# Altium schematic symbol library bms_R00.SCHLIB: 50 symbols
Pins are listed as number, name and electrical type; pins without a type are passive.

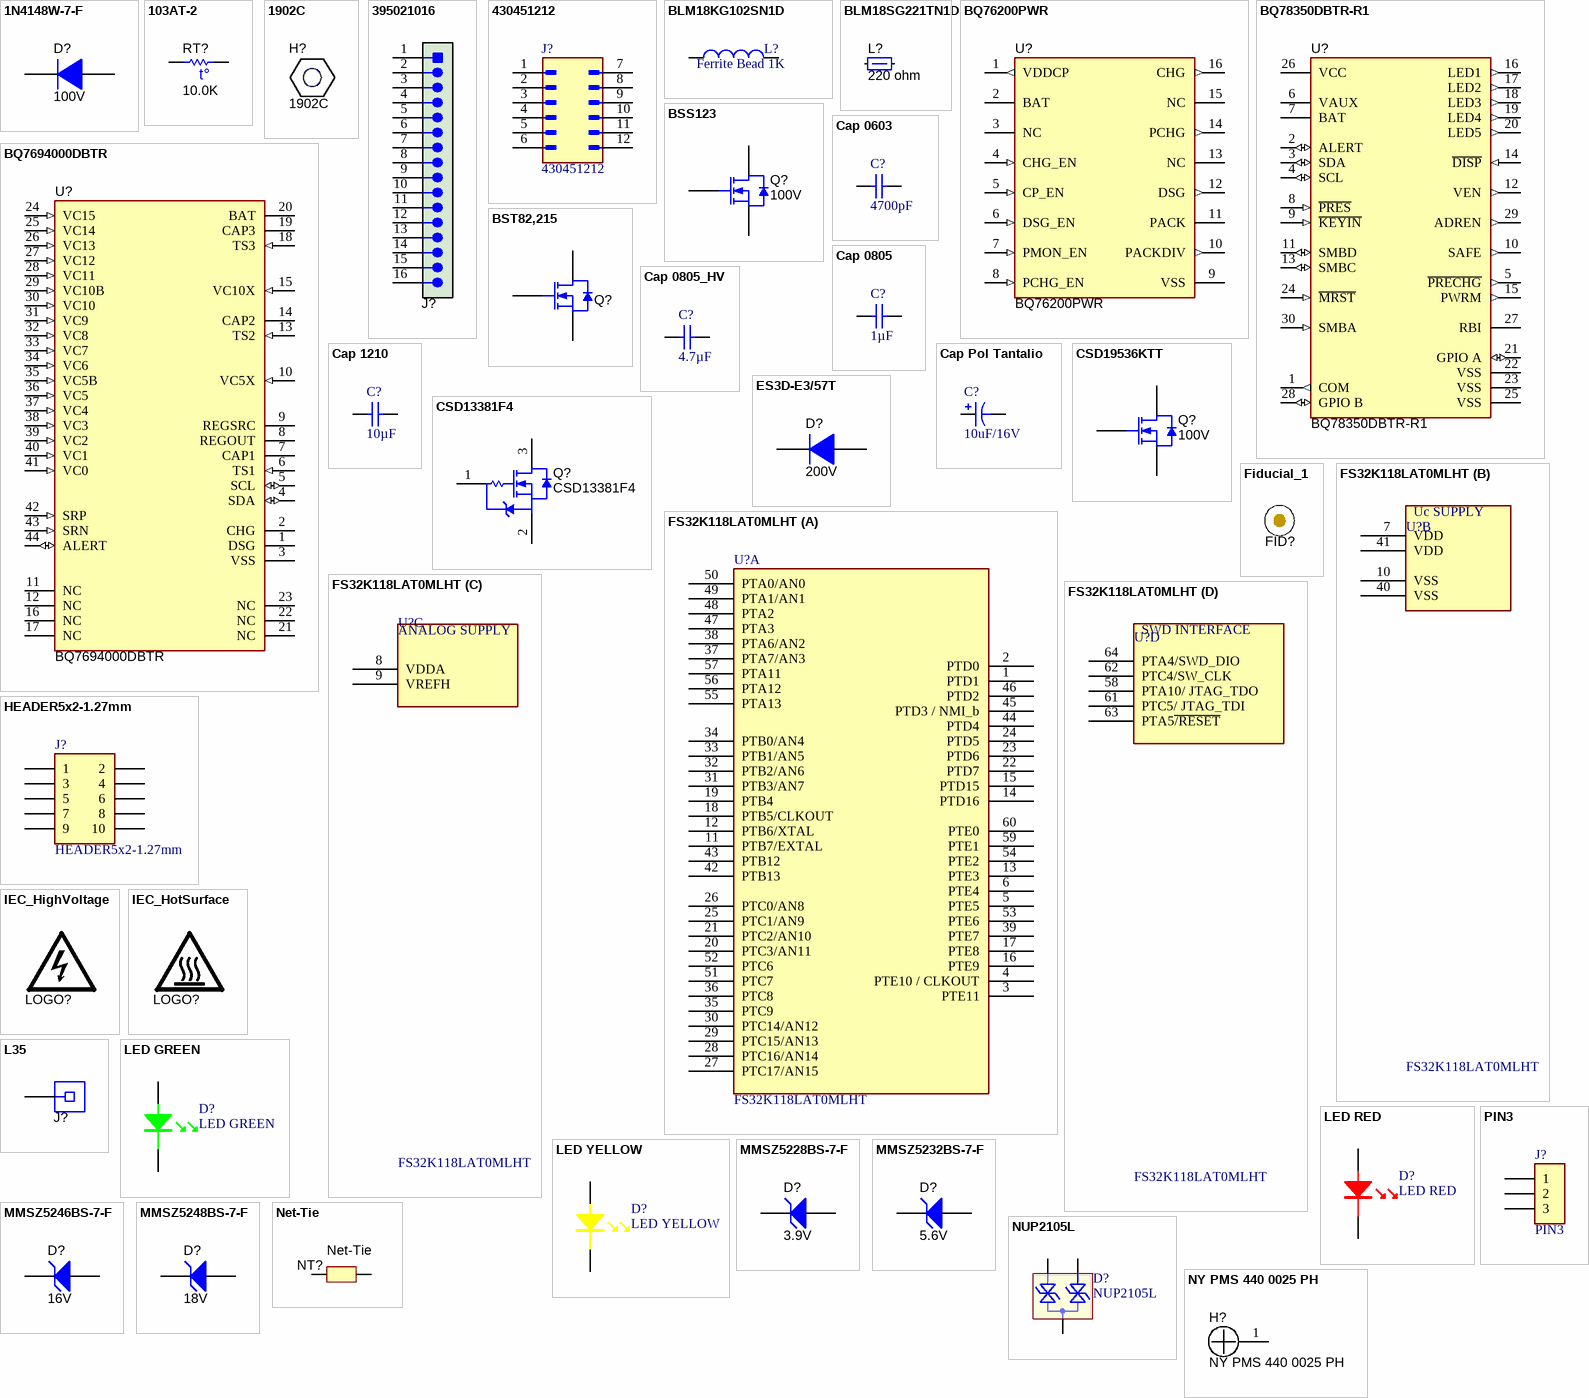
[diagram p0: symbols 1N4148W-7-F to PIN3]

## 1N4148W-7-F
designator D?  value 100V  (hidden comment: 1N4148W-7-F)
Diode, Ultrafast, 100V, 0.15A, SOD-123; Manufacturer: Diodes Inc.; U/M: EA; Vf_V: 1.25; Io_A: 0.15; Vr_V: 100; Value2: 1.25V; TJmax_C: 150; ComponentLink1URL: http://www.diodes.com/datasheets/ds30086.pdf; SymbolVersion: 2008-12-08; PackageReference: SOD-123; PartNumber: 1N4148W-7-F; ComponentLink1Description: Datasheet link; CompType: Diode; MountType: SMT; RoHS: Y; Value1: 0.15A; Type: Ultrafast; Published: 2008-06-26; Publisher: Texas Instruments; LatestRevisionDate: 2013-10-23; Supplier 1: Digi-Key; Supplier Part Number 1: 1N4148W-FDICT-ND; Supplier 2: Mouser; Supplier Part Number 2: 621-1N4148W-F; Supplier 3: Farnell; Supplier Part Number 3: 1776392
footprint SOD-123
pins: 1 K, 2 A

## 103AT-2
designator RT?  value 10.0K  (hidden comment: 103AT-2)
Thermistor NTC, 10.0k ohm, 1%, Disc, 5x8.4 mm; Manufacturer: SEMITEC Corporation; Tolerance_%: 1; Power_W: 0.01; TaMin_C: -50; TaMax_C: 110; U/M: EA; ComponentLink1URL: http://www.semitec.co.jp/english2/products/pdf/AT_Thermistor.pdf; PackageReference: Disc, 5x8.4 mm; SymbolVersion: 2008-11-25; PartNumber: 103AT-2; ComponentLink1Description: Datasheet link; CompType: ThermistorNTC; Series: AT; MountType: TH; RoHS: Y; Published: 2009-09-22; Publisher: Texas Instruments; LatestRevisionDate: 2013-08-16; Supplier 1: Mouser; Supplier Part Number 1: 954-103AT-2
footprint Thermistor_103AT-2
pins: 1, 2
text: t°

## 1902C
designator H?
Standoff, Hex, 0.5"L #4-40 Nylon; Manufacturer: Keystone; CompType: Hardware; MountType: N/A; RoHS: Y; PartNumber: 1902C; PackageReference: Standoff; ComponentLink1Description: Datasheet Link; ComponentLink1URL: http://www.keyelco.com/pdfs/M55-prod31.pdf; Alternate Manufacturer: -; Alternate PartNumber: -; LatestRevisionDate: 2012-06-27; LatestRevisionNote: Initial Version; Publisher: Texas Instruments; Supplier 1: Digi-Key; Supplier Part Number 1: 1902CK-ND
footprint Keystone_1902C

## 395021016
designator J?, comment 395021011  (value not drawn)
Terminal block, 3.5mm, 16x1, R/A, TH; Manufacturer: Molex; SymbolCreator: a0799628; U/M: EA; SymbolVersion: 2013-12-22; PartNumber: 395021011; PackageReference: 39.90x7.03x9.33 mm; CompType: Terminal Block; RoHS: Y; MountType: TH; ComponentLink1Description: Datasheet Link; ComponentLink1URL: http://www.molex.com/pdm_docs/sd/395021002_sd.pdf; Publisher: Texas Instruments; LatestRevisionDate: 2015-02-18; Supplier 1: Digi-Key; Supplier Part Number 1: WM7779-ND; Supplier 2: Mouser; Supplier Part Number 2: 538-39502-1011
footprint HEADER_395021016
pins: 1, 2, 3, 4, 5, 6, 7, 8, 9, 10, 11, 12, 13, 14, 15, 16

## 430451212
designator J?
Micro-Fit 3.0 43045 / CONN HEADER VERT 12POS 3MM; MP: 430451012; Price: None; Availability: Unavailable; Value: *; Package: None
footprint MOLEX_430451212
pins: 1, 2, 3, 4, 5, 6, 7, 8, 9, 10, 11, 12

## BLM18KG102SN1D
designator L?, comment Ferrite Bead 1K
BLM18KG102SN1D 1K
footprint 0603 FB
pins: 1, 2

## BLM18SG221TN1D
designator L?  value 220 ohm  (hidden comment: BLM18SG221TN1D)
Ferrite Bead, 220 ohm @ 100 MHz, 2.5 A, 0603; Manufacturer: MuRata; Imax_A: 2.5; DCR_ohm: 0.04; Value1: 0.04 ohm; Value2: 2.5A; ZTyp@100MHz_Ohm: 220; CompType: Ferrite Bead; SymbolVersion: 2009-06-02; PartNumber: BLM18SG221TN1D; MountType: SMT; PackageReference: 0603; Published: 2014-04-30; Publisher: Texas Instruments; LatestRevisionDate: 2015-05-26; ComponentLink1Description: Datasheet link; ComponentLink1URL: http://search.murata.co.jp/Ceramy/image/img/PDF/ENG/L0110S0100BLM18S.pdf; RoHS: Y; Supplier 1: Digi-Key; Supplier Part Number 1: 490-5225-1-ND; Supplier 2: Mouser; Supplier Part Number 2: 81-BLM18SG221TN1D; Supplier 3: Farnell; Supplier Part Number 3: 1515753
footprint 0603 FB
pins: 1, 2

## BQ76200PWR
designator U?
bq76200: Low-Power, High-Side N-channel FET Driver with Pack Voltage Monitor, PW0016A; Manufacturer: Texas Instruments; SymbolCreator: x0208325; SizeArea_mm2: 32; SizeAreaWB_mm2: 58.8; SizeX_mm: 6.4; SizeY_mm: 5; SizeZ_mm: 1.2; CompType: IC; U/M: EA; SymbolVersion: 2013-12-26; PartNumber: BQ76200PWR; Alternate PartNumber: BQ76200PW; PackageReference: PW0016A; PackageDescription: TSSOP-16; MountType: SMT; ComponentLink1Description: Datasheet Link; ComponentLink1URL: http://www.ti.com/lit/ds/symlink/bq76200.pdf; RoHS: Y; Publisher: Texas Instruments; LatestRevisionDate: 2016-06-17; Alternate Manufacturer: Texas Instruments
footprint PW0016A_N
footprint PW0016A_M
footprint PW0016A_L
pins: 1 VDDCP (out), 2 BAT (power), 3 NC, 4 CHG_EN (in), 5 CP_EN (in), 6 DSG_EN (in), 7 PMON_EN (in), 8 PCHG_EN (in), 9 VSS (power), 10 PACKDIV (out), 11 PACK (power), 12 DSG (out), 13 NC, 14 PCHG (out), 15 NC, 16 CHG (out)
1 alternate drawing of the same symbol

## BQ78350DBTR-R1
designator U?
CEDV Li-Ion Gas Gauge and Battery Management Controller Companion to the bq769x0 Battery Monitoring AFE, DBT0030A; Alternate PartNumber: BQ78350DBT-R1; Manufacturer: Texas Instruments; SymbolCreator: x0208325; CompType: IC; U/M: EA; SymbolVersion: 2013-11-18; PartNumber: BQ78350DBTR-R1; PackageReference: DBT0030A; MountType: SMT; ComponentLink1Description: Datasheet Link; ComponentLink1URL: http://www.ti.com/lit/ds/symlink/bq78350-r1.pdf; RoHS: Y; Publisher: Texas Instruments; LatestRevisionDate: 2016-04-08; Alternate Manufacturer: Texas Instruments
footprint DBT0030A_N
footprint DBT0030A_M
footprint DBT0030A_L
pins: 1 COM (out), 2 ALERT (io), 3 SDA (io), 4 SCL (io), 5 ~{PRECHG} (out), 6 VAUX (power), 7 BAT (power), 8 ~{PRES} (in), 9 ~{KEYIN} (in), 10 SAFE (out), 11 SMBD (io), 12 VEN (out), 13 SMBC (io), 14 ~{DISP} (in), 15 PWRM (out), 16 LED1 (out), 17 LED2 (out), 18 LED3 (out), 19 LED4 (out), 20 LED5 (out), 21 GPIO A (io), 22 VSS (power), 23 VSS (power), 24 ~{MRST} (in), 25 VSS (power), 26 VCC (power), 27 RBI (power), 28 GPIO B (io), 29 ADREN (out), 30 SMBA (in)
1 alternate drawing of the same symbol

## BQ7694000DBTR
designator U?
Battery Monitor for Lithium-Ion and Phosphate Battery Packs, DBT0044A; Manufacturer: Texas Instruments; SymbolCreator: a0412235; CompType: IC; U/M: EA; SymbolVersion: 2012-12-21; PartNumber: BQ7694000DBTR; Alternate PartNumber: BQ7694000DBT; PackageReference: DBT0044A; MountType: SMT; ComponentLink1Description: Datasheet Link; ComponentLink1URL: http://www.ti.com/lit/gpn/bq76920; RoHS: Y; Publisher: Texas Instruments; LatestRevisionDate: 2016-02-12; Alternate Manufacturer: Texas Instruments
footprint DBT0044A_N
footprint DBT0044A_M
footprint DBT0044A_L
pins: 1 DSG (power), 2 CHG (power), 3 VSS (power), 4 SDA (io), 5 SCL (io), 6 TS1 (in), 7 CAP1, 8 REGOUT (power), 9 REGSRC (power), 10 VC5X (in), 11 NC, 12 NC, 13 TS2 (in), 14 CAP2, 15 VC10X (in), 16 NC, 17 NC, 18 TS3 (in), 19 CAP3, 20 BAT (power), 21 NC, 22 NC, 23 NC, 24 VC15 (in), 25 VC14 (in), 26 VC13 (in), 27 VC12 (in), 28 VC11 (in), 29 VC10B (in), 30 VC10 (in), 31 VC9 (in), 32 VC8 (in), 33 VC7 (in), 34 VC6 (in), 35 VC5B (in), 36 VC5 (in), 37 VC4 (in), 38 VC3 (in), 39 VC2 (in), 40 VC1 (in), 41 VC0 (in), 42 SRP (in), 43 SRN (in), 44 ALERT (io)

## BSS123
designator Q?  value 100V  (hidden comment: BSS123)
MOSFET, N-CH, 100V, 0.17A, SOT-23; Manufacturer: Fairchild Semiconductor; Alternate Manufacturer: None; U/M: EA; ChType: N; VdsMax_V: 100; Value1: 10 ohm; Rdson45_Ohm: 10; Value2: 1.8 nC; QgTyp_nC: 1.8; Vgs_V: 20; IdsMax_A: 0.17; SymbolVersion: 2008-07-28; CompType: MOSFET; PartNumber: BSS123; PackageReference: SOT-23; RoHS: Y; MountType: SMT; Published: 2008-06-19; Publisher: Texas Instruments; LatestRevisionDate: 2013-10-21; LatestRevisionNote: Added parts.; ComponentLink1Description: Datasheet link; ComponentLink1URL: http://www.fairchildsemi.com/ds/BS/BSS123.pdf; Supplier 1: Digi-Key; Supplier Part Number 1: BSS123NCT-ND; Supplier 2: Mouser; Supplier Part Number 2: 512-BSS123; Supplier 3: Farnell; Supplier Part Number 3: 9845321
footprint SOT-23
footprint SOT-23M
footprint SOT-23L
pins: 1 G, 2 S, 3 D

## BST82,215
designator Q?  (value not drawn)
MOSFET, N-CH, 100 V, 0.19 A, SOT-23; Manufacturer: NXP Semiconductor; Alternate Manufacturer: None; U/M: EA; ChType: N; Value: 100V; VdsMax_V: 100; Value1: 10 ohm; Rdson45_ohm: 10; Value2: ? nC; Vgs_V: 20; IdsMax_A: 0.19; AEC Category: Q101; SymbolVersion: 2008-07-28; CompType: MOSFET; PartNumber: BST82,215; PackageReference: SOT-23; RoHS: Y; MountType: SMT; Published: 2008-06-19; Publisher: Texas Instruments; LatestRevisionDate: 2016-03-03; LatestRevisionNote: Added parts.; ComponentLink1Description: Datasheet link; ComponentLink1URL: http://www.nxp.com/documents/data_sheet/BST82.pdf; Supplier 1: Digi-Key; Supplier Part Number 1: 568-6229-1-ND; Supplier 2: Mouser; Supplier Part Number 2: 771-BST82215; Supplier 3: Newark; Supplier Part Number 3: 75R4704; AEC Qualified: ?
footprint SOT-23
footprint SOT-23M
footprint SOT-23L
pins: 1 G, 2 S, 3 D

## Cap 0603
designator C?, comment 4700pF
Capacitor
footprint C0603
pins: 1, 2

## Cap 0805
designator C?, comment 1µF
Capacitor
footprint 0805 (Chip Resistor; Body 2.0 x 1.3 mm (LxW typ))
pins: 1, 2

## Cap 0805_HV
designator C?, comment 4.7µF
Capacitor
footprint 0805_HV_2
pins: 1, 2

## Cap 1210
designator C?, comment 10µF
Capacitor
footprint 1210_270
pins: 1, 2

## Cap Pol Tantalio
designator C?, comment 10uF/16V
Polarized Capacitor Tantalium
footprint 1206 Cap Tant
pins: 1, 2
1 alternate drawing of the same symbol

## CSD13381F4
designator Q?
MOSFET, N/P-CH, 12 V, 2.1 A, 1.0x0.35x0.6mm; Manufacturer: Texas Instruments; Alternate Manufacturer: None; SymbolCreator: a0411947; U/M: EA; ChType: N; Value: 12V; VdsMax_V: 12; Value1: 0.14 ohm; Rdson45_ohm: 0.14; Value2: 1.06 nC; QgTyp_nC: 1.06; Vgs_V: 8; IdsMax_A: 2.1; SymbolVersion: 2013-11-21; PartNumber: CSD13381F4; PackageReference: 1.0x0.35x0.6mm; CompType: MOSFET; RoHS: Y; MountType: SMT; Published: 2008-06-19; Publisher: Texas Instruments; LatestRevisionDate: 2015-02-19; LatestRevisionNote: Added parts.; ComponentLink1Description: Datasheet link; ComponentLink1URL: http://www.ti.com/lit/ds/symlink/csd13381f4.pdf; Supplier 1: Digi-Key; Supplier Part Number 1: CSD13381F4-ND; Supplier 2: Mouser; Supplier Part Number 2: 595-CSD13381F4; Supplier 3: Newark; Supplier Part Number 3: 11X3112
footprint YJC0003A
pins: 1 G, 2 S, 3 D
1 alternate drawing of the same symbol

## CSD19536KTT
designator Q?  value 100V  (hidden comment: CSD19536KTT)
MOSFET, N-CH, 100 V, 200 A, KTT0002A; Manufacturer: Texas Instruments; Alternate Manufacturer: None; U/M: EA; ChType: N; VdsMax_V: 100; Value1: ? ohm; Value2: 118 nC; QgTyp_nC: 118; Vgs_V: 20; IdsMax_A: 200; AEC Category: Q101; SymbolVersion: 2008-07-28; PartNumber: CSD19536KTT; PackageReference: KTT0002A; CompType: MOSFET; RoHS: Y; MountType: SMT; Published: 2008-06-19; Publisher: Texas Instruments; LatestRevisionDate: 2016-02-08; LatestRevisionNote: Added parts.; ComponentLink1Description: Datasheet link; ComponentLink1URL: http://www.ti.com/lit/ds/symlink/csd19536ktt.pdf; Supplier 1: Digi-Key; Supplier Part Number 1: 296-41136-1-ND; Supplier 2: Mouser; Supplier Part Number 2: 595-CSD19536KTT; AEC Qualified: ?
footprint KTT0002A_N
footprint KTT0002A_M
footprint KTT0002A_L
pins: 1 G, 2 D, 3 S
1 alternate drawing of the same symbol

## ES3D-E3/57T
designator D?  value 200V  (hidden comment: ES3D-E3/57T)
Diode, Ultrafast, 200V, 3A, SMC; Manufacturer: Vishay-Semiconductor; U/M: EA; Vf_V: 0.9; Value2: 0.9V; Io_A: 3; Vr_V: 200; TJmax_C: 150; SymbolVersion: 2008-12-08; PartNumber: ES3D-E3/57T; PackageReference: SMC; CompType: Diode; Value1: 3A; MountType: SMT; Type: Ultrafast; RoHS: Y; Published: 2008-06-26; Publisher: Texas Instruments; LatestRevisionDate: 2014-01-31; ComponentLink1Description: Datasheet link; ComponentLink1URL: http://www.vishay.com/docs/88589/88589.pdf; Supplier 1: Digi-Key; Supplier Part Number 1: ES3D-E3/57TGICT-ND; Supplier 2: Mouser; Supplier Part Number 2: 625-ES3D-E3; Supplier 3: Farnell; Supplier Part Number 3: 1021753
signal-integrity model Diode
footprint SMC
pins: 1 K, 2 A

## Fiducial_1
designator FID?, comment Fiducial  (value not drawn)
Fiducial mark.  There is nothing to buy or mount.; SymbolCreator: codlsc; SymbolVersion: 2009-11-4; CompType: Fiducial; Publisher: Texas Instruments; LatestRevisionDate: 2014-08-01; LatestRevisionNote: Added Alternate PartNumber and Alternate Manufacturer parameters to appropriate components.; Manufacturer: N/A; MountType: N/A; PackageReference: Fiducial; PartNumber: N/A; ClassName: FiducialMark
footprint Fiducial10-30
footprint Fiducial10-20
footprint Fiducial15-30
footprint Fiducial20-40
footprint Fiducial6.4-20

## FS32K118LAT0MLHT
designator U?
ARM® Cortex®-M0+ series Microcontroller IC 32-Bit Single-Core 48MHz 256KB (256K x 8) FLASH 64-LQFP (10x10)
footprint LQFP64-NXP
part A pins: 1 PTD1, 2 PTD0, 3 PTE11, 4 PTE10 / CLKOUT, 5 PTE5, 6 PTE4, 11 PTB7/EXTAL, 12 PTB6/XTAL, 13 PTE3, 14 PTD16, 15 PTD15, 16 PTE9, 17 PTE8, 18 PTB5/CLKOUT, 19 PTB4, 20 PTC3/AN11, 21 PTC2/AN10, 22 PTD7, 23 PTD6, 24 PTD5, 25 PTC1/AN9, 26 PTC0/AN8, 27 PTC17/AN15, 28 PTC16/AN14, 29 PTC15/AN13, 30 PTC14/AN12, 31 PTB3/AN7, 32 PTB2/AN6, 33 PTB1/AN5, 34 PTB0/AN4, 35 PTC9, 36 PTC8, 37 PTA7/AN3, 38 PTA6/AN2, 39 PTE7, 42 PTB13, 43 PTB12, 44 PTD4, 45 PTD3 / NMI_b, 46 PTD2, 47 PTA3, 48 PTA2, 49 PTA1/AN1, 50 PTA0/AN0, 51 PTC7, 52 PTC6, 53 PTE6, 54 PTE2, 55 PTA13, 56 PTA12, 57 PTA11, 59 PTE1, 60 PTE0
part B pins: 7 VDD, 10 VSS, 40 VSS, 41 VDD
part C pins: 8 VDDA, 9 VREFH
part D pins: 58 PTA10/ JTAG_TDO, 61 PTC5/ JTAG_TDI, 62 PTC4/SW_CLK, 63 PTA5~{/RESET}, 64 PTA4/SWD_DIO
part B text: Uc SUPPLY
part C text: ANALOG SUPPLY
part D text: SWD INTERFACE

## HEADER5x2-1.27mm
designator J?
PAD10-2X05-HH
footprint PAD10-2X05-HH (Header 2x5 paso 0.05")
pins: 1, 2, 3, 4, 5, 6, 7, 8, 9, 10

## IEC_HighVoltage
designator LOGO?, comment DANGER HIGH VOLTAGE  (value not drawn)  (no BOM)
IEC 61010-1 High Voltage Warning; SymbolCreator: a0412235; SymbolVersion: 2011-08-22; Published: 2009-03-03; Publisher: Texas Instruments; LatestRevisionDate: 2016-03-21
footprint IEC_HighVoltage_Large
footprint IEC_HighVoltage_Medium
footprint IEC_HighVoltage_Small

## IEC_HotSurface
designator LOGO?, comment CAUTION HOT SURFACE  (value not drawn)  (no BOM)
IEC 61010-1 Hot Surface Warning; SymbolCreator: a0412235; SymbolVersion: 2011-08-22; Published: 2009-03-03; Publisher: Texas Instruments; LatestRevisionDate: 2016-03-21
footprint IEC_HotSurface_Large
footprint IEC_HotSurface_Medium
footprint IEC_HotSurface_Small

## L35
designator J?  (value not drawn)
Connector, L Type Copper Single Conductor, TH; Manufacturer: Thomas & Betts; SymbolCreator: a0799628; Gender: Female; Row_Count: 1; SymbolVersion: 2014-1-06; PartNumber: L35; PackageReference: Connector, L Type Copper Single Conductor, TH; CompType: Connector; RoHS: N; MountType: TH; ComponentLink1Description: Datasheet URL; ComponentLink1URL: http://www.tnb.com/ps/fulltilt/index.cgi?check=Y&part=L35; Orientation: Vertical; PinCount: 1; ContactFinish: Copper; Publisher: Texas Instruments; LatestRevisionDate: 2016-07-21
footprint TB_L35
pins: 1

## LED GREEN
designator D?
LED G
footprint LED0603-G (Diode; Body 1.6 x 0.8 mm (LxW typ))
footprint LED0805-G
pins: 1 K, 2 A

## LED RED
designator D?
LED R
footprint LED1206
footprint LED0805-R
footprint LED0603-R (Diode; Body 1.6 x 0.8 mm (LxW typ))
pins: 1 K, 2 A

## LED YELLOW
designator D?
LED Y
footprint LED0603-Y (Diode; Body 1.6 x 0.8 mm (LxW typ))
footprint LED0805-Y
pins: 1 K, 2 A

## MMSZ5228BS-7-F
designator D?  value 3.9V  (hidden comment: MMSZ5228BS-7-F)
Diode, Zener, 3.9 V, 200 mW, SOD-323; Manufacturer: Diodes Inc.; SymbolCreator: a0412235; U/M: EA; Power_W: 0.2; Vz_V: 3.9; Value1: 0.2W; RJA_CperW: 350; AEC Category: Q101; SymbolVersion: 2010-08-25; PartNumber: MMSZ5228BS-7-F; PackageReference: SOD-323; CompType: Zener; Vr_V: N/A; MountType: SMT; RoHS: Y; ComponentLink1Description: Datasheet link; ComponentLink1URL: http://www.diodes.com/datasheets/ds31038.pdf; Published: 2008-10-08; Publisher: Texas Instruments; LatestRevisionDate: 2016-04-07; LatestRevisionNote: Updated Supplier Data; Supplier 1: Digi-Key; Supplier Part Number 1: MMSZ5228BS-FDICT-ND; Supplier 2: Mouser; Supplier Part Number 2: 621-MMSZ5228BS-F; AEC Qualified: ?
signal-integrity model Diode
footprint sod-323
pins: 1 K, 2 A

## MMSZ5232BS-7-F
designator D?  value 5.6V  (hidden comment: MMSZ5232BS-7-F)
Diode, Zener, 5.6V, 200mW, SOD-323; Manufacturer: Diodes Inc.; U/M: EA; Power_W: 0.2; Vz_V: 5.6; Value1: 0.2W; RJA_CperW: 350; CompType: Zener; SymbolVersion: 2010-08-25; PartNumber: MMSZ5232BS-7-F; PackageReference: SOD-323; Vr_V: N/A; MountType: SMT; RoHS: Y; ComponentLink1Description: Datasheet link; ComponentLink1URL: http://www.diodes.com/datasheets/ds31038.pdf; Published: 2008-10-08; Publisher: Texas Instruments; LatestRevisionDate: 2013-02-11; LatestRevisionNote: Updated Supplier Data; Supplier 1: Digi-Key; Supplier Part Number 1: MMSZ5232BS-FDICT-ND; Supplier 2: Mouser; Supplier Part Number 2: 621-MMSZ5232BS-F
signal-integrity model Diode
footprint sod-323
pins: 1 K, 2 A

## MMSZ5246BS-7-F
designator D?  value 16V  (hidden comment: MMSZ5246BS-7-F)
Diode, Zener, 16 V, 200 mW, SOD-323; Manufacturer: Diodes Inc.; SymbolCreator: a0412235; U/M: EA; Power_W: 0.2; Vz_V: 16; Value1: 0.2W; RJA_CperW: 350; AEC Category: Q101; SymbolVersion: 2010-08-25; PartNumber: MMSZ5246BS-7-F; PackageReference: SOD-323; CompType: Zener; Vr_V: N/A; MountType: SMT; RoHS: Y; ComponentLink1Description: Datasheet link; ComponentLink1URL: http://www.diodes.com/datasheets/ds31038.pdf; Published: 2008-10-08; Publisher: Texas Instruments; LatestRevisionDate: 2016-02-26; LatestRevisionNote: Updated Supplier Data; Supplier 1: Digi-Key; Supplier Part Number 1: MMSZ5246BS-FDICT-ND; Supplier 2: Mouser; Supplier Part Number 2: 621-MMSZ5246BS-7-F; AEC Qualified: ?
signal-integrity model Diode
footprint sod-323
pins: 1 K, 2 A

## MMSZ5248BS-7-F
designator D?  value 18V  (hidden comment: MMSZ5248BS-7-F)
Diode, Zener, 18 V, 200 mW, SOD-323; Manufacturer: Diodes Inc.; SymbolCreator: a0412235; U/M: EA; Power_W: 0.2; Vz_V: 18; Value1: 0.2W; RJA_CperW: 350; AEC Category: Q101; SymbolVersion: 2010-08-25; PartNumber: MMSZ5248BS-7-F; PackageReference: SOD-323; CompType: Zener; Vr_V: N/A; MountType: SMT; RoHS: Y; ComponentLink1Description: Datasheet link; ComponentLink1URL: http://www.diodes.com/datasheets/ds31038.pdf; Published: 2008-10-08; Publisher: Texas Instruments; LatestRevisionDate: 2016-01-12; LatestRevisionNote: Updated Supplier Data; Supplier 1: Digi-Key; Supplier Part Number 1: MMSZ5248BS-FDICT-ND; Supplier 2: Mouser; Supplier Part Number 2: 621-MMSZ5248BS-F; Supplier 3: Farnell; Supplier Part Number 3: 1858632; AEC Qualified: ?
signal-integrity model Diode
footprint sod-323
pins: 1 K, 2 A

## Net-Tie
designator NT?  (net tie, no BOM)
Single point connection between nets.; SymbolCreator: codlsc; SymbolVersion: 2009-07-01; MountType: SMT; PackageReference: N/A; Publisher: Texas Instruments; LatestRevisionDate: 2015-10-18; LatestRevisionNote: Added Alternate PartNumber and Alternate Manufacturer parameters to appropriate components.
footprint Net-Tie_10mil (10mil net tie, no solder mask opening, no solder paste)
footprint NetTie_1206 (1206 pads tied by 10mil copper trace which can be cut.  Part can be placed on pads.)
footprint Net-Tie_0805_HV
footprint NetTie_1206_NoOverlay (1206 pads tied by 10mil copper trace which can be cut.  Part can be placed on pads.)
footprint Net-Tie_0805_HV_NoOverlay (0805_HV pads tied by 10mil copper trace which can be cut.  An 0805 part can be placed on pads.)
footprint Net-Tie_10milWide_30milLong
footprint Net-Tie_20milWide_60milLong
footprint NetTie_0603
footprint NetTie_0402
footprint Net-Tie_50milWide_30milLong
pins: 1, 2

## NUP2105L
designator D?
Dual Line CAN Bus Protector TVS DIODE 24VWM 44VC SOT23-3
footprint SOT-23 (SOT-23; 3 Leads; Body 3.0 x 2.5 mm, inc. leads (LxW max))
pins: 1, 2, 3

## NY PMS 440 0025 PH
designator H?
Machine Screw, Round, #4-40 x 1/4, Nylon, Philips panhead; Manufacturer: B&F Fastener Supply; CompType: Hardware; SymbolCreator: codlsc; U/M: EA; SymbolVersion: 2009-10-28; MountType: N/A; RoHS: Y; PartNumber: NY PMS 440 0025 PH; PackageReference: Screw; DigiKeyPartNumber: H542-ND; ComponentLink1Description: Datasheet Link; ComponentLink1URL: http://www.fasnetdirect.com/refguide/Nylpanms.pdf; ClassName: Mounting Holes; LatestRevisionDate: 2015-07-23; Publisher: Texas Instruments; Supplier 1: Digi-Key; Supplier Part Number 1: H542-ND
footprint NY PMS 440 0025 PH
footprint NY PMS 440 0025 PH_3Donly
pins: 1

## PIN3
designator J?
footprint SIP3
footprint SIP3 90
pins: 1, 2, 3

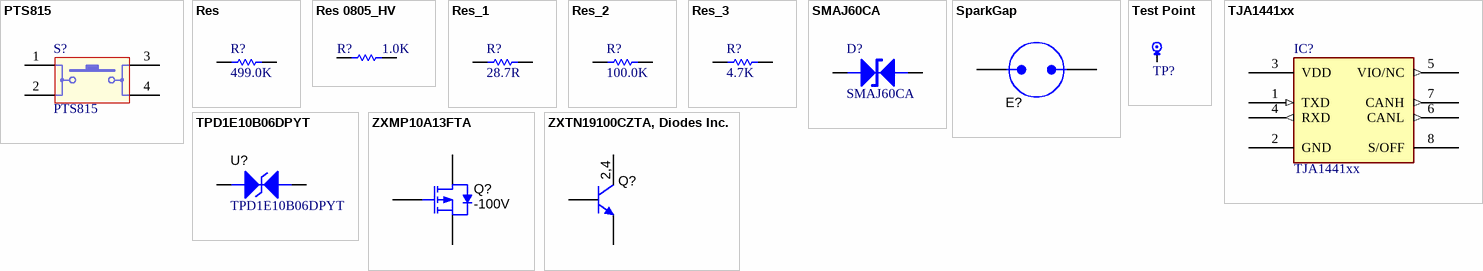
[diagram p1: symbols PTS815 to ZXTN19100CZTA, Diodes Inc.]

## PTS815
designator S?
SWITCH TACTILE SPST-NO 0.05A 12V
footprint PTS815SJK250SMTRLFS
pins: 1, 2, 3, 4

## Res
designator R?, comment 499.0K
Resistor
footprint R0603
footprint R1206
footprint RES100
footprint RES300
footprint RES400
footprint RES1200
footprint R0805 (Chip Resistor; Body 2.0 x 1.3 mm (LxW typ))
footprint R1210 (Chip Resistor, 2-Leads, Body 3.1x2.6mm, IPC Medium Density)
footprint R2512
pins: 1, 2

## Res 0805_HV
designator R?, comment 1.0K
Resistor
footprint 0805_HV_2
footprint R0603
pins: 1, 2

## Res_1
designator R?, comment 28.7R
Resistor
footprint R0603
footprint R1206
footprint RES100
footprint RES300
footprint RES400
footprint RES1200
footprint R0805 (Chip Resistor; Body 2.0 x 1.3 mm (LxW typ))
footprint R1210 (Chip Resistor, 2-Leads, Body 3.1x2.6mm, IPC Medium Density)
footprint R2512
footprint 2010
footprint 2512
pins: 1, 2

## Res_2
designator R?, comment 100.0K
Resistor
footprint R0603
footprint R1206
footprint RES100
footprint RES300
footprint RES400
footprint RES1200
footprint R0805 (Chip Resistor; Body 2.0 x 1.3 mm (LxW typ))
footprint R1210 (Chip Resistor, 2-Leads, Body 3.1x2.6mm, IPC Medium Density)
footprint R2512
footprint 2010
footprint 2512
footprint 0805_HV_2
pins: 1, 2

## Res_3
designator R?, comment 4.7K
Resistor
footprint R0603
footprint R1206
footprint RES100
footprint RES300
footprint RES400
footprint RES1200
footprint R0805 (Chip Resistor; Body 2.0 x 1.3 mm (LxW typ))
footprint R1210 (Chip Resistor, 2-Leads, Body 3.1x2.6mm, IPC Medium Density)
pins: 1, 2

## SMAJ60CA
designator D?
TVS DIODE 22VWM 35.5VC DO214AC. / BIDIRECCIONAL
footprint DO-214AB(SMA)
pins: A, K

## SparkGap
designator E?, comment N/A  (value not drawn)
Spark Gap; SymbolCreator: a0412235; SymbolVersion: 2013-07-11; Manufacturer: N/A; PartNumber: N/A; MountType: N/A; CompType: Spark Gap; Publisher: Texas Instruments; LatestRevisionDate: 2013-12-05; LatestRevisionNote: Added Alternate PartNumber and Alternate Manufacturer parameters to appropriate components.; Alternate Manufacturer: -; Alternate PartNumber: -
footprint SPARK_GAP2
pins: 1, 2

## Test Point
designator TP?  (value not drawn)
footprint TEST POINT SMD 1
pins: 1

## TJA1441xx
designator IC?
High-speed CAN transceiver
footprint SOIC8
pins: 1 TXD (in) "Screw Terminal", 2 GND (power), 3 VDD (power) "Positive Supply 4.5V to 5.5V", 4 RXD (out) "Receive Data", 5 VIO/NC (out) "Reference Voltage", 6 CANL (out) "CAN Bus Low Line", 7 CANH (out) "CAN Bus High Line", 8 S/OFF "Mode/Slope Setting"

## TPD1E10B06DPYT
designator U?
ESD Protection in 0402 Package with 10 pF Capacitance and 6 V Breakdown, 1 Channel, -40 to +125 degC, 2-pin X2SON (DPY); Manufacturer: Texas Instruments; Alternate PartNumber: Equivalent; Breakdown Voltage(Min)(V): 6; Eco-Plan: TBD; IEC 61000-4-2 Air-Gap(+/- kV): 30; IO Capacitance(Typ)(pF): 10; SubFamily: ESD Solution; DatasheetVersion: SLLSEB1; PackageVersion: revA, Apr-2010; PackageReference: DPY0002A; PackageDescription: 2-Pin Plastic Small Outline No-Lead 1.0 x 0.6 x 0.4 mm Body; Supplier 1: Mouser; Supplier Part Number 1: N/A; IEC 61000-4-2 Contact(+/- kV): 30; IO Leakage Current(nA): 10; MountType: SMT; PartNumber: TPD1E10B06DPYT; ComponentLink1Description: Datasheet; ComponentLink1URL: http://www.ti.com/general/docs/lit/getliterature.tsp?genericPartNumber=TPD1E10B06&fileType=pdf; ComponentLink2Description: URL Link1; ComponentLink2URL: SamplesURL:http://www.ti.com/product/tpd1e10b06#samples; Alternate Manufacturer: Texas Instruments
footprint DPY0002A
pins: 1 IO_LINE, 2 GND

## ZXMP10A13FTA
designator Q?  value -100V  (hidden comment: ZXMP10A13FTA)
MOSFET, P-CH, -100V, -0.6A, SOT-23; Manufacturer: Diodes Inc.; Alternate Manufacturer: None; U/M: EA; ChType: P; VdsMax_V: -100; Value1: 1 ohm; Rdson45_Ohm: 1; Value2: 3.5 nC; QgTyp_nC: 3.5; Vgs_V: -4; IdsMax_A: -0.6; SymbolVersion: 2008-07-09; PartNumber: ZXMP10A13FTA; PackageReference: SOT-23; CompType: MOSFET; RoHS: Y; MountType: SMT; Published: 2008-06-19; Publisher: Texas Instruments; LatestRevisionDate: 2013-12-01; LatestRevisionNote: Added parts.; ComponentLink1Description: Datasheet link; ComponentLink1URL: http://www.diodes.com/datasheets/ZXMP10A13F.pdf; Supplier 1: Digi-Key; Supplier Part Number 1: ZXMP10A13FCT-ND; Supplier 2: Mouser; Supplier Part Number 2: 522-ZXMP10A13FTA; Supplier 3: Farnell; Supplier Part Number 3: 1843777
footprint SOT-23
footprint SOT-23M
footprint SOT-23L
pins: 1 G, 2 S, 3 D

## ZXTN19100CZTA, Diodes Inc.
designator Q?, comment ZXTN19100CZTA  (value not drawn)
Transistor, NPN, 100 V, 5.25 A, SOT-89; Manufacturer: Diodes Inc.; SymbolCreator: a0412235; PNP: 0; NPN: 1; Vceo_V: 100; Vcesat1_V: 0.21; Value: 100 V; IcRated_A: 5.25; Value1: 5.25 A; HfeMax: 500; TaMin_C: -55; TaMax_C: 150; CompType: BJT; U/M: EA; AEC Category: Q101; SymbolVersion: 2009-09-01; PartNumber: ZXTN19100CZTA; PackageReference: SOT-89; RoHS: Y; Value2: 500; Published: 2008-07-31; LatestRevisionDate: 2016-02-25; Publisher: Texas Instruments; ComponentLink1Description: Datasheet link; ComponentLink1URL: http://www.diodes.com/datasheets/ZXTN19100CZ.pdf; Supplier 1: Digi-Key; Supplier Part Number 1: ZXTN19100CZCT-ND; Supplier 2: Mouser; Supplier Part Number 2: 621-ZXTN19100CZTA; MountType: SMT; AEC Qualified: ?
footprint SOT-89-3
pins: 1 B, 2 C, 3 E, 4 C
text: 2,4